# Altium footprint library Sensor Package.PcbLib: 119 footprints (part 1 of 8)
Each footprint in its own frame and in the unit in brackets; x right, y up, seen from the top. Pads: shape width x height; smd on the part's side, far side on the other; paste and mask are expansions set on the pad; w line width, h text height; cw(c..) or ccw(c..) is an arc to the next point about the centre after c.
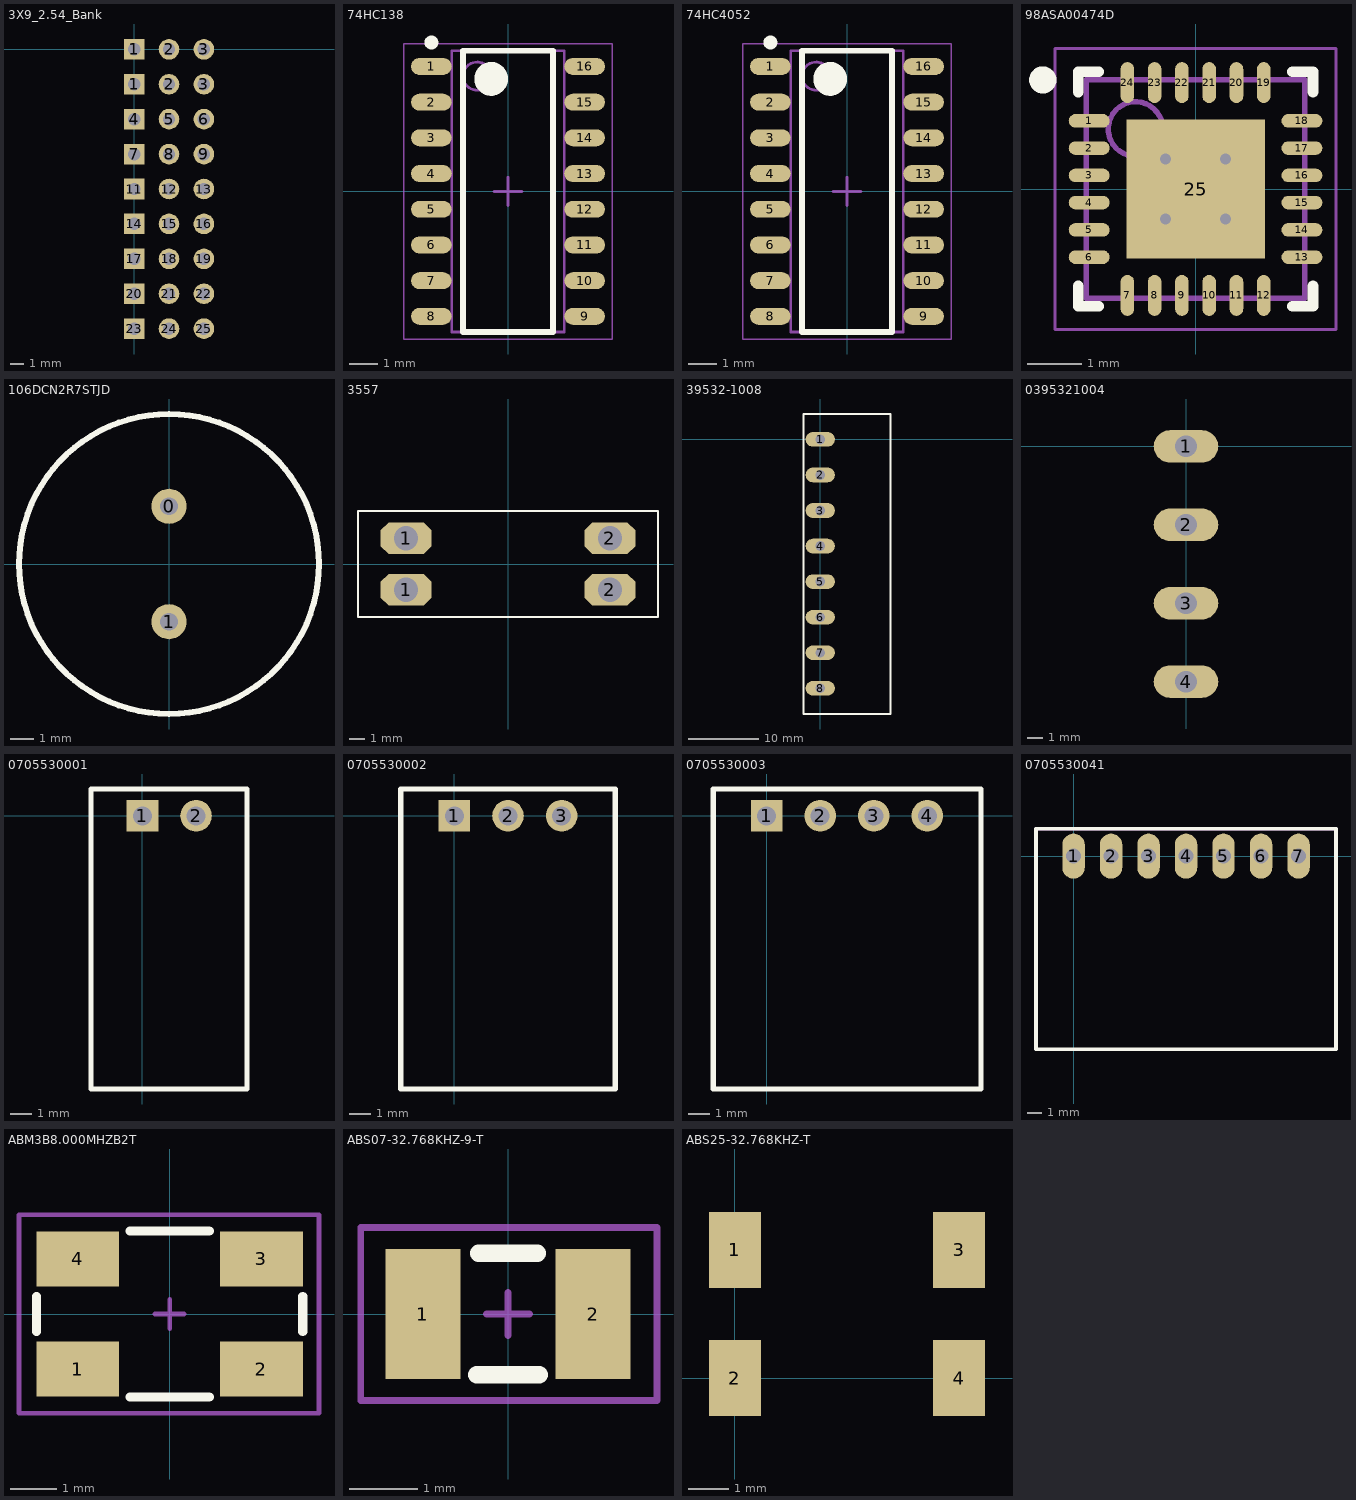
[diagram p0: the footprints below, top view; thin cyan lines are the x and y axes]

## 3X9_2.54_Bank [mm] "Female header 3X9"
pads (27):
  rect 1.5x1.5 hole 0.9: 1(0,-2.54) 1(0,0) 4(0,-5.08) 7(0,-7.62) 11(0,-10.16) 14(0,-12.7) 17(0,-15.24) 20(0,-17.78) 23(0,-20.32)
  round 1.5 hole 0.9: 2(2.54,-2.54) 2(2.54,0) 3(5.08,-2.54) 3(5.08,0) 5(2.54,-5.08) 6(5.08,-5.08) 8(2.54,-7.62) 9(5.08,-7.62) 12(2.54,-10.16) 13(5.08,-10.16) 15(2.54,-12.7) 16(5.08,-12.7) 18(2.54,-15.24) 19(5.08,-15.24) 21(2.54,-17.78) 22(5.08,-17.78) 24(2.54,-20.32) 25(5.08,-20.32)

## 74HC138 [mm] "SOIC, 16-Leads, Body 9.90x3.90mm, Pitch 1.27mm, IPC Medium Density"
height 1.75
pads (16):
  oval 1.45x0.6 smd: 1(-2.725,4.445) 2(-2.725,3.175) 3(-2.725,1.905) 4(-2.725,0.635) 5(-2.725,-0.635) 6(-2.725,-1.905) 7(-2.725,-3.175) 8(-2.725,-4.445) 9(2.725,-4.445) 10(2.725,-3.175) 11(2.725,-1.905) 12(2.725,-0.635) 13(2.725,0.635) 14(2.725,1.905) 15(2.725,3.175) 16(2.725,4.445)
Top Overlay:
  circle w0.25: c-2.725,5.295 r0.125
  circle w0.6: c-0.6,4 r0.3
  lines w0.2: -1.6,-5 -1.6,5 1.6,5 1.6,-5 -1.6,-5
Mechanical 13:
  circle w0.1: c-1.1,4.1 r0.5
  lines w0.1: -2,-5 -2,5 2,5 2,-5 -2,-5
Mechanical 15:
  lines w0.05: -3.7,-5.25 -3.7,5.25 3.7,5.25 3.7,-5.25 -3.7,-5.25
  lines w0.1: -0.5,0 0.5,0 ; 0,-0.5 0,0.5
3D body: height 1.75, standoff 0.1, extent -2,-5 2,5

## 74HC4052 [mm] "SOIC, 16-Leads, Body 9.90x3.90mm, Pitch 1.27mm, IPC Medium Density"
height 1.75
pads (16):
  oval 1.45x0.6 smd: 1(-2.725,4.445) 2(-2.725,3.175) 3(-2.725,1.905) 4(-2.725,0.635) 5(-2.725,-0.635) 6(-2.725,-1.905) 7(-2.725,-3.175) 8(-2.725,-4.445) 9(2.725,-4.445) 10(2.725,-3.175) 11(2.725,-1.905) 12(2.725,-0.635) 13(2.725,0.635) 14(2.725,1.905) 15(2.725,3.175) 16(2.725,4.445)
Top Overlay:
  circle w0.25: c-2.725,5.295 r0.125
  circle w0.6: c-0.6,4 r0.3
  lines w0.2: -1.6,-5 -1.6,5 1.6,5 1.6,-5 -1.6,-5
Mechanical 13:
  circle w0.1: c-1.1,4.1 r0.5
  lines w0.1: -2,-5 -2,5 2,5 2,-5 -2,-5
Mechanical 15:
  lines w0.05: -3.7,-5.25 -3.7,5.25 3.7,5.25 3.7,-5.25 -3.7,-5.25
  lines w0.1: -0.5,0 0.5,0 ; 0,-0.5 0,0.5
3D body: height 1.75, standoff 0.1, extent -2,-5 2,5

## 98ASA00474D [mm] "QFN, 24-Leads, Body 3.98x3.98mm, Pitch 0.50mm, Thermal Pad 2.80x2.80mm, IPC Medium Density"
height 1
pads (25):
  oval 0.75x0.25 smd: 1(-1.95,1.25) 2(-1.95,0.75) 3(-1.95,0.25) 4(-1.95,-0.25) 5(-1.95,-0.75) 6(-1.95,-1.25) 13(1.95,-1.25) 14(1.95,-0.75) 15(1.95,-0.25) 16(1.95,0.25) 17(1.95,0.75) 18(1.95,1.25)
  oval 0.25x0.75 smd: 7(-1.25,-1.95) 8(-0.75,-1.95) 9(-0.25,-1.95) 10(0.25,-1.95) 11(0.75,-1.95) 12(1.25,-1.95) 19(1.25,1.95) 20(0.75,1.95) 21(0.25,1.95) 22(-0.25,1.95) 23(-0.75,1.95) 24(-1.25,1.95)
  rect 2.54x2.54 smd: 25(0,0)
via -0.55,0.55 diameter 0.5 hole 0.2
via 0.55,0.55 diameter 0.5 hole 0.2
via -0.55,-0.55 diameter 0.5 hole 0.2
via 0.55,-0.55 diameter 0.5 hole 0.2
Top Overlay:
  circle w0.25: c-2.8,2 r0.125
  lines w0.2: -2.15,-1.775 -2.15,-2.15 -1.775,-2.15 ; -2.15,1.775 -2.15,2.15 -1.775,2.15 ; 1.775,-2.15 2.15,-2.15 2.15,-1.775 ; 1.775,2.15 2.15,2.15 2.15,1.775
Mechanical 13:
  circle w0.1: c-1.1,1.1 r0.5
  lines w0.1: -2,-2 -2,2 2,2 2,-2 -2,-2
Mechanical 15:
  lines w0.05: -2.575,-2.575 -2.575,2.575 2.575,2.575 2.575,-2.575 -2.575,-2.575
  lines w0.1: -0.5,0 0.5,0 ; 0,-0.5 0,0.5
3D body: height 1, standoff 0.05, extent -2,-2 2,2

## 106DCN2R7STJD [mil] "106DCN2R7STJD"
height 1062.99
pads (2):
  round 60 hole 30: 0(0,98.43) 1(0,-98.43)
Top Overlay:
  circle w10: c0,0 r255.91
3D body: height 1062.99, standoff 0, extent -246.06,-245.93 246.06,245.93

## 3557 [mil] "3557"
pads (4):
  oct 133x83 hole 63: 1(-265,-67) 1(-265,67) 2(265,-67) 2(265,67)
Top Overlay:
  lines w5: -390,-137.5 -390,137.5 390,137.5 390,-137.5 -390,-137.5
3D body: height 299.21, standoff 0, extent 166.67,-74.98 352.36,73.02
3D body: height 299.21, standoff 0, extent -354,-74 -168.31,74
3D body: height 708.66, standoff 200, extent -353,-73 353,73
3D body: height 275.59, standoff 0, extent -392.5,-140 392.5,140

## 39532-1008 [mil]
pads (8):
  oval 165x82.5 hole 55: 1(0,0) 2(0,-200) 3(0,-400) 4(0,-600) 5(0,-800) 6(0,-1000) 7(0,-1200) 8(0,-1400)
Top Overlay:
  lines w10: -95,-1545 396,-1545 396,-1530 396,143 -95,143 -95,-1545
3D body "395321008.stp": height 330, standoff -150, extent -79,-1541 391,138

## 0395321004 [mil]
pads (4):
  oval 165x82.5 hole 55: 1(0,0) 2(0,-200) 3(0,-400) 4(0,-600)
3D body "395321004.stp": height 330, standoff -150, extent -78,-744.5 392,134.5

## 0475900001 - Micro USB Molex [mm] "Micro USB Molex Part: 0475900001"

## 0705530001 [mm]
pads (2):
  rect 1.5x1.5 hole 0.9: 1(0,0)
  round 1.5 hole 0.9: 2(2.54,0)
Top Overlay:
  lines w0.254: -2.438,-12.954 4.953,-12.954 4.953,-2.032 4.953,1.27 -2.438,1.27 -2.438,-12.954
3D body "705530001.stp": height 6.96, standoff -3.32, extent -2.413,-12.878 4.953,0.711

## 0705530002 [mm]
pads (3):
  rect 1.5x1.5 hole 0.9: 1(0,0)
  round 1.5 hole 0.9: 2(2.54,0) 3(5.08,0)
Top Overlay:
  lines w0.254: -2.54,-12.954 7.62,-12.954 7.62,0.635 7.62,1.27 -2.54,1.27 -2.54,-12.954
3D body "705530002.stp": height 5.92, standoff -4.37, extent -2.54,-12.954 7.62,0.635

## 0705530003 [mm] "Molex 2.54mm 0705530003"
pads (4):
  rect 1.5x1.5 hole 0.9: 1(0,0)
  round 1.5 hole 0.9: 2(2.54,0) 3(5.08,0) 4(7.62,0)
Top Overlay:
  lines w0.254: -2.54,-12.954 -2.54,1.27 10.16,1.27 10.16,-1.905 10.16,-12.954 -2.54,-12.954
3D body "705530003.stp": height 3.02, standoff -7.26, extent -2.565,-12.954 10.135,0.635

## 0705530041 [mil] "Molex - 0705530041"
pads (7):
  oval 60x120 hole 40: 1(0,0) 2(100,0) 3(200,0) 4(300,0) 5(400,0) 6(500,0) 7(600,0)
Top Overlay:
  lines w10: -100,-515 -100,73 700,73 700,-515 -100,-515
Mechanical 1:
  lines w10: -100,73 700,73
3D body "705530041.stp": height 261.57, standoff -143.43, extent -100,-510 700,25

## ABM3B8.000MHZB2T [mm]
height 1.1
pads (4):
  rect 1.8x1.2 smd: 1(-2,-1.2) 2(2,-1.2) 3(2,1.2) 4(-2,1.2)
Top Overlay:
  lines w0.2: -2.896,-0.381 -2.896,0.381 ; -0.864,-1.803 0.864,-1.803 ; -0.864,1.803 0.864,1.803 ; 2.896,-0.381 2.896,0.381
Mechanical 15:
  lines w0.1: -0.318,0 0.318,0 ; 0,-0.318 0,0.318 ; -3.277,-2.159 3.251,-2.159 3.251,2.159 -3.277,2.159 -3.277,-2.159
3D body "ABM3B.STEP": height 1.1, standoff -0.01, extent -2.5,-1.587 2.5,1.588

## ABS07-32.768KHZ-9-T [mm] "Two Pin Crystal Oscilator"
pads (2):
  rect 1.1x1.9 smd: 1(-1.25,0) 2(1.25,0)
Top Overlay:
  lines w0.254: -0.457,-0.889 0.457,-0.889 ; -0.432,0.889 0.432,0.889
Mechanical 15:
  lines w0.1: -0.318,0 0.318,0 ; 0,-0.318 0,0.318 ; -2.159,-1.27 2.184,-1.27 2.184,1.27 -2.159,1.27 -2.159,-1.27
3D body "ABS07.STEP": height 0.89, standoff 0, extent -1.6,-0.749 1.6,0.749

## ABS25-32.768KHZ-T [mm] "RTC Crystal Oscillator"
pads (4):
  rect 1.3x1.9 smd: 1(0,3.2) 2(0,0) 3(5.6,3.2) 4(5.6,0)
3D body "ABS25.STEP": height 2.7, standoff 0.04, extent -1.206,-0.349 6.794,3.651